# EAGLE library part RJ45-8 (library schematic)
RJ45 Jack Simple RJ45, 8-pin connection - connector for common Cat5, Cat5e, and Cat6 Ethernet cables. Footprint not yet proven in production. Connector sku is PRT-00643; Breakout PCB sku is BOB-00716.
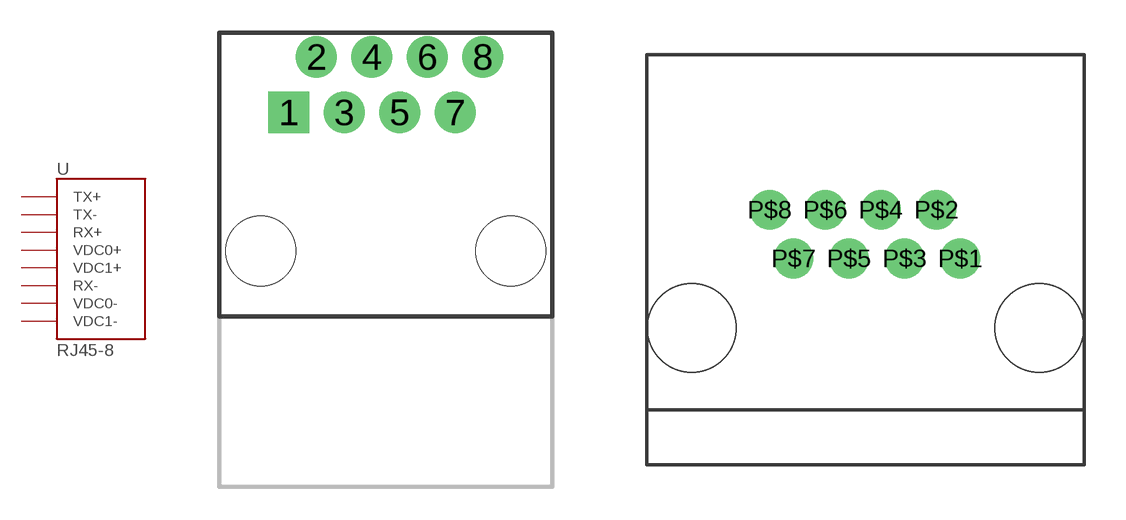
[diagram p21: symbol with the pads of RJ45-8; footprints RJ45-8, RJHSE-5080-ND]

Designator prefix -

## RJ45-8PTH  [RJ45-8]
1  TX+
2  TX-
3  RX+
4  VDC0+
5  VDC1+
6  RX-
7  VDC0-
8  VDC1-

## RJ45-8  [RJHSE-5080-ND]
P$1  TX+
P$2  TX-
P$3  RX+
P$4  VDC0+
P$5  VDC1+
P$6  RX-
P$7  VDC0-
P$8  VDC1-

## Footprint RJ45-8 (pad centres in mm)
drill 1 pad 1.88 square: 1 -4.445,6.35
drill 1 pad 1.88: 2 -3.175,8.89; 3 -1.905,6.35; 4 -0.635,8.89; 5 0.635,6.35; 6 1.905,8.89; 7 3.175,6.35; 8 4.445,8.89
hole 3.2 at -5.715,0
hole 3.2 at 5.715,0

## Footprint RJHSE-5080-ND (pad centres in mm)
drill 0.94: P$1 3.46,2.54; P$2 2.59,4.32; P$3 1.43,2.54; P$4 0.56,4.32; P$5 -0.6,2.54; P$6 -1.47,4.32; P$7 -2.63,2.54; P$8 -3.5,4.32
hole 3.25 at -6.35,0
hole 3.25 at 6.35,0